# Altium footprint library SOP65P640X120-14N.PcbLib: 1 footprints
Each footprint in its own frame and in the unit in brackets; x right, y up, seen from the top. Pads: shape width x height; smd on the part's side, far side on the other; paste and mask are expansions set on the pad; w line width, h text height; cw(c..) or ccw(c..) is an arc to the next point about the centre after c.
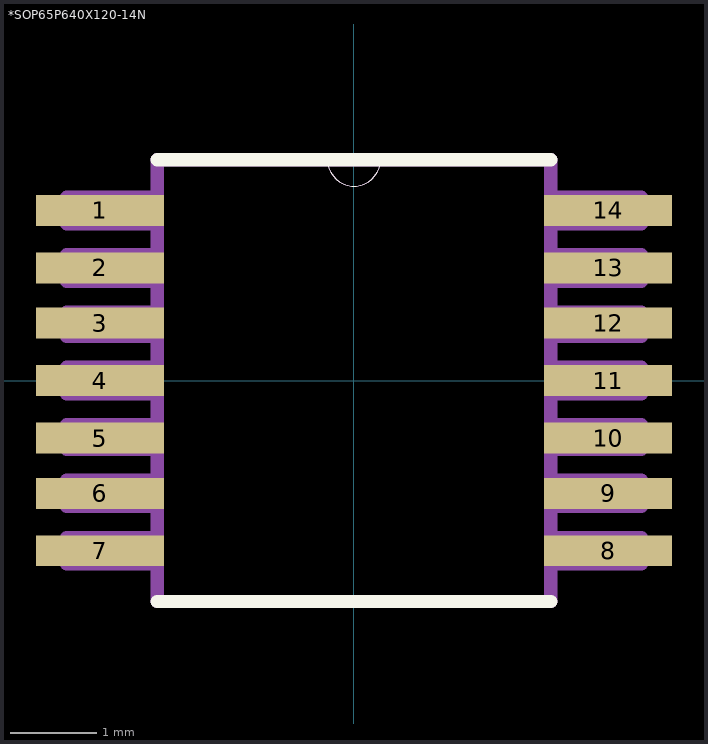
[diagram p0: the footprint, top view; thin cyan lines are the x and y axes]

## *SOP65P640X120-14N [mil]
pads (14):
  rect 58x14 smd: 1(-115,77) 2(-115,51) 3(-115,26) 4(-115,0) 5(-115,-26) 6(-115,-51) 7(-115,-77) 8(115,-77) 9(115,-51) 10(115,-26) 11(115,0) 12(115,26) 13(115,51) 14(115,77)
Top Overlay:
  lines w0: -12,100 ccw(c0,100) 12,100
  lines w6: -89,-100 89,-100 ; -89,100 -12,100 12,100 89,100
Mechanical 4:
  lines w0: -12,100 ccw(c0,100) 12,100 cw(c0,100) -12,100
  lines w6: -130,-83 -89,-83 ; -130,-83 -130,-71 ; -130,-83 -89,-83 ; -130,-83 -130,-71 ; -130,-71 -89,-71 ; -130,-71 -89,-71 ; -130,-57 -89,-57 ; -130,-57 -130,-45 ; -130,-57 -89,-57 ; -130,-57 -130,-45 ; -130,-45 -89,-45 ; -130,-45 -89,-45 ; -130,-31 -89,-31 ; -130,-31 -130,-20 ; -130,-31 -89,-31 ; -130,-31 -130,-20 ; -130,-20 -89,-20 ; -130,-20 -89,-20 ; -130,-6 -89,-6 ; -130,-6 -130,6 ; -130,-6 -89,-6 ; -130,-6 -130,6 ; -130,6 -89,6 ; -130,6 -89,6 ; -130,20 -89,20 ; -130,20 -130,31 ; -130,20 -89,20 ; -130,20 -130,31 ; -130,31 -89,31 ; -130,31 -89,31 ; -130,45 -89,45 ; -130,45 -130,57 ; -130,45 -89,45 ; -130,45 -130,57 ; -130,57 -89,57 ; -130,57 -89,57 ; -130,71 -89,71 ; -130,71 -130,83 ; -130,71 -89,71 ; -130,71 -130,83 ; -130,83 -89,83 ; -130,83 -89,83 ; -89,-100 -89,100 ; -89,-100 89,-100 ; -89,-100 -89,100 ; -89,-100 89,-100 ; -89,-83 -89,-71 ; -89,-83 -89,-71 ; -89,-57 -89,-45 ; -89,-57 -89,-45 ; -89,-31 -89,-20 ; -89,-31 -89,-20 ; -89,-6 -89,6 ; -89,-6 -89,6 ; -89,20 -89,31 ; -89,20 -89,31 ; -89,45 -89,57 ; -89,45 -89,57 ; -89,71 -89,83 ; -89,71 -89,83 ; -89,100 -12,100 ; -89,100 -12,100 ; -12,100 12,100 ; -12,100 12,100 ; 12,100 89,100 ; 12,100 89,100 ; 89,-100 89,100 ; 89,-100 89,100 ; 89,-83 130,-83 ; 89,-83 89,-71 ; 89,-83 130,-83 ; 89,-83 89,-71 ; 89,-71 130,-71 ; 89,-71 130,-71 ; 89,-57 130,-57 ; 89,-57 89,-45 ; 89,-57 130,-57 ; 89,-57 89,-45 ; 89,-45 130,-45 ; 89,-45 130,-45 ; 89,-31 130,-31 ; 89,-31 89,-20 ; 89,-31 130,-31 ; 89,-31 89,-20 ; 89,-20 130,-20 ; 89,-20 130,-20 ; 89,-6 130,-6 ; 89,-6 89,6 ; 89,-6 130,-6 ; 89,-6 89,6 ; 89,6 130,6 ; 89,6 130,6 ; 89,20 130,20 ; 89,20 89,31 ; 89,20 130,20 ; 89,20 89,31 ; 89,31 130,31 ; 89,31 130,31 ; 89,45 130,45 ; 89,45 89,57 ; 89,45 130,45 ; 89,45 89,57 ; 89,57 130,57 ; 89,57 130,57 ; 89,71 130,71 ; 89,71 89,83 ; 89,71 130,71 ; 89,71 89,83 ; 89,83 130,83 ; 89,83 130,83 ; 130,-83 130,-71 ; 130,-83 130,-71 ; 130,-57 130,-45 ; 130,-57 130,-45 ; 130,-31 130,-20 ; 130,-31 130,-20 ; 130,-6 130,6 ; 130,-6 130,6 ; 130,20 130,31 ; 130,20 130,31 ; 130,45 130,57 ; 130,45 130,57 ; 130,71 130,83 ; 130,71 130,83
3D body: height 43.31, standoff 0, extent -125.98,-98.43 125.99,98.42